# Altium footprint library WR-BNC.PcbLib: 2 footprints
Each footprint in its own frame and in the unit in brackets; x right, y up, seen from the top. Pads: shape width x height; smd on the part's side, far side on the other; paste and mask are expansions set on the pad; w line width, h text height; cw(c..) or ccw(c..) is an arc to the next point about the centre after c.
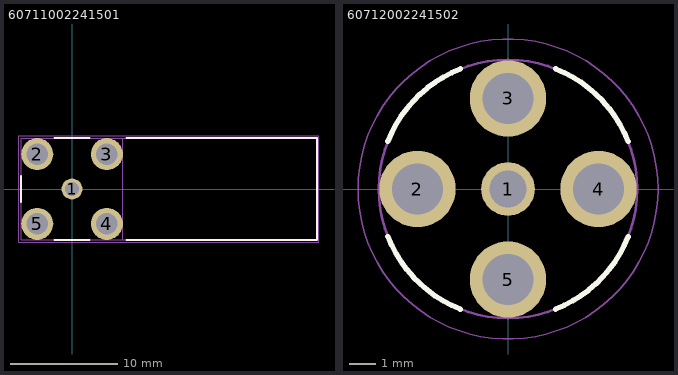
[diagram p0: the footprints below, top view; thin cyan lines are the x and y axes]

## 60711002241501 [mm] "BNC PCB THT Jack"
height 10.9
pads (5):
  round 1.95 hole 1.3: 1(0,0)
  round 3 hole 2: 2(-3.25,3.25) 3(3.25,3.25) 4(3.25,-3.25) 5(-3.25,-3.25)
Top Overlay:
  lines w0.2: -4.75,-1.2 -4.75,1.2 ; -1.623,-4.75 1.627,-4.75 ; -1.623,4.75 1.627,4.75 ; 5.1,-4.75 22.85,-4.75 22.85,4.75 5.1,4.75
Top Component Outline:
  lines w0.1: 4.75,-4.75 4.75,4.75 ; -4.75,-4.75 22.85,-4.75 22.85,4.75 -4.75,4.75 -4.75,-4.75
Top Courtyard:
  lines w0.05: -4.95,-4.95 23.05,-4.95 23.05,4.95 -4.95,4.95 -4.95,-4.95
Top Component Center:
  lines w0.05: -0.5,0 0.5,0 ; 0,-0.5 0,0.5
Top Designator (Mech19):
  text ".Designator" at -7.498,-0.5 h1.5
3D body "STP_WR-BNC_60711002241501 (rev1).stp": height 12, standoff -3.4, extent -4.846,-4.84 22.754,4.852

## 60712002241502 [mm] "BNC PCB THT Jack"
height 16.74
pads (5):
  round 2 hole 1.37: 1(0,0)
  round 2.85 hole 1.91: 2(-3.38,0) 3(0,3.38) 4(3.38,0) 5(0,-3.38)
Top Overlay:
  lines w0.2: -4.487,-1.774 ccw(c0,0) -1.784,-4.483 ; -4.483,1.784 cw(c0,0) -1.774,4.487 ; 1.774,-4.487 ccw(c0,0) 4.483,-1.784 ; 1.784,4.483 cw(c0,0) 4.487,1.774
Top Component Outline:
  circle w0.1: c0,0 r4.825
Top Courtyard:
  circle w0.05: c0,0 r5.6
Top Component Center:
  lines w0.05: -0.5,0 0.5,0 ; 0,-0.5 0,0.5
Top Designator (Mech19):
  text ".Designator" at -7.498,-0.5 h1.5
3D body "STP_WR-BNC_60712002241502 (rev1).stp": height 17, standoff -3.24, extent -5.5,-4.825 5.5,4.825